# EAGLE library part CONN_8 (library bschulz)
Genaric 8 terminal header Digikey 2.54_SCREW <https://www.digikey.com/product-detail/en/on-shore-technology-inc/OSTVN06A150/ED10565-ND/1588866>
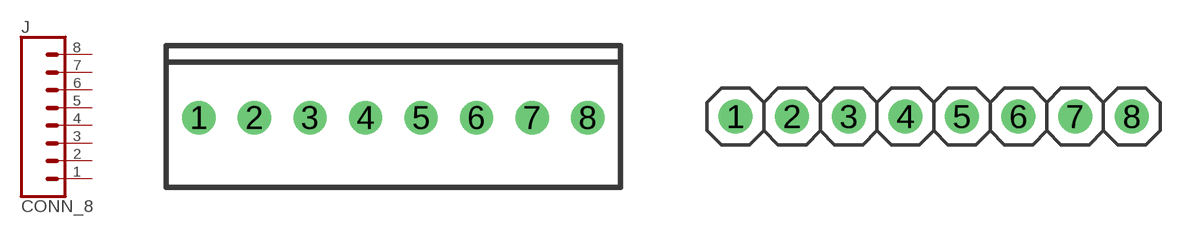
[diagram p76: symbol with the pads of 1X08_SCREW; footprints 1X08_SCREW, 1X08]

Designator prefix J

## CONN_82.54_SCREW (DIGIKEY: ED10566-ND; MF: On Shore; MPN: OSTVN08A150)  [1X08_SCREW]
1  1  pas
2  2  pas
3  3  pas
4  4  pas
5  5  pas
6  6  pas
7  7  pas
8  8  pas

## CONN_82.54  [1X08]
Pads as for 1X08_SCREW

## Footprint 1X08_SCREW (pad centres in mm)
PIN HEADER
drill 1.016: 1 -8.89,0; 2 -6.35,0; 3 -3.81,0; 4 -1.27,0; 5 1.27,0; 6 3.81,0; 7 6.35,0; 8 8.89,0

## Footprint 1X08 (pad centres in mm)
PIN HEADER
drill 1.016: 1 -8.89,0; 2 -6.35,0; 3 -3.81,0; 4 -1.27,0; 5 1.27,0; 6 3.81,0; 7 6.35,0; 8 8.89,0